# Altium schematic symbol library PCB_STM32RCT61.SCHLIB: 39 symbols
Pins are listed as number, name and electrical type; pins without a type are passive.

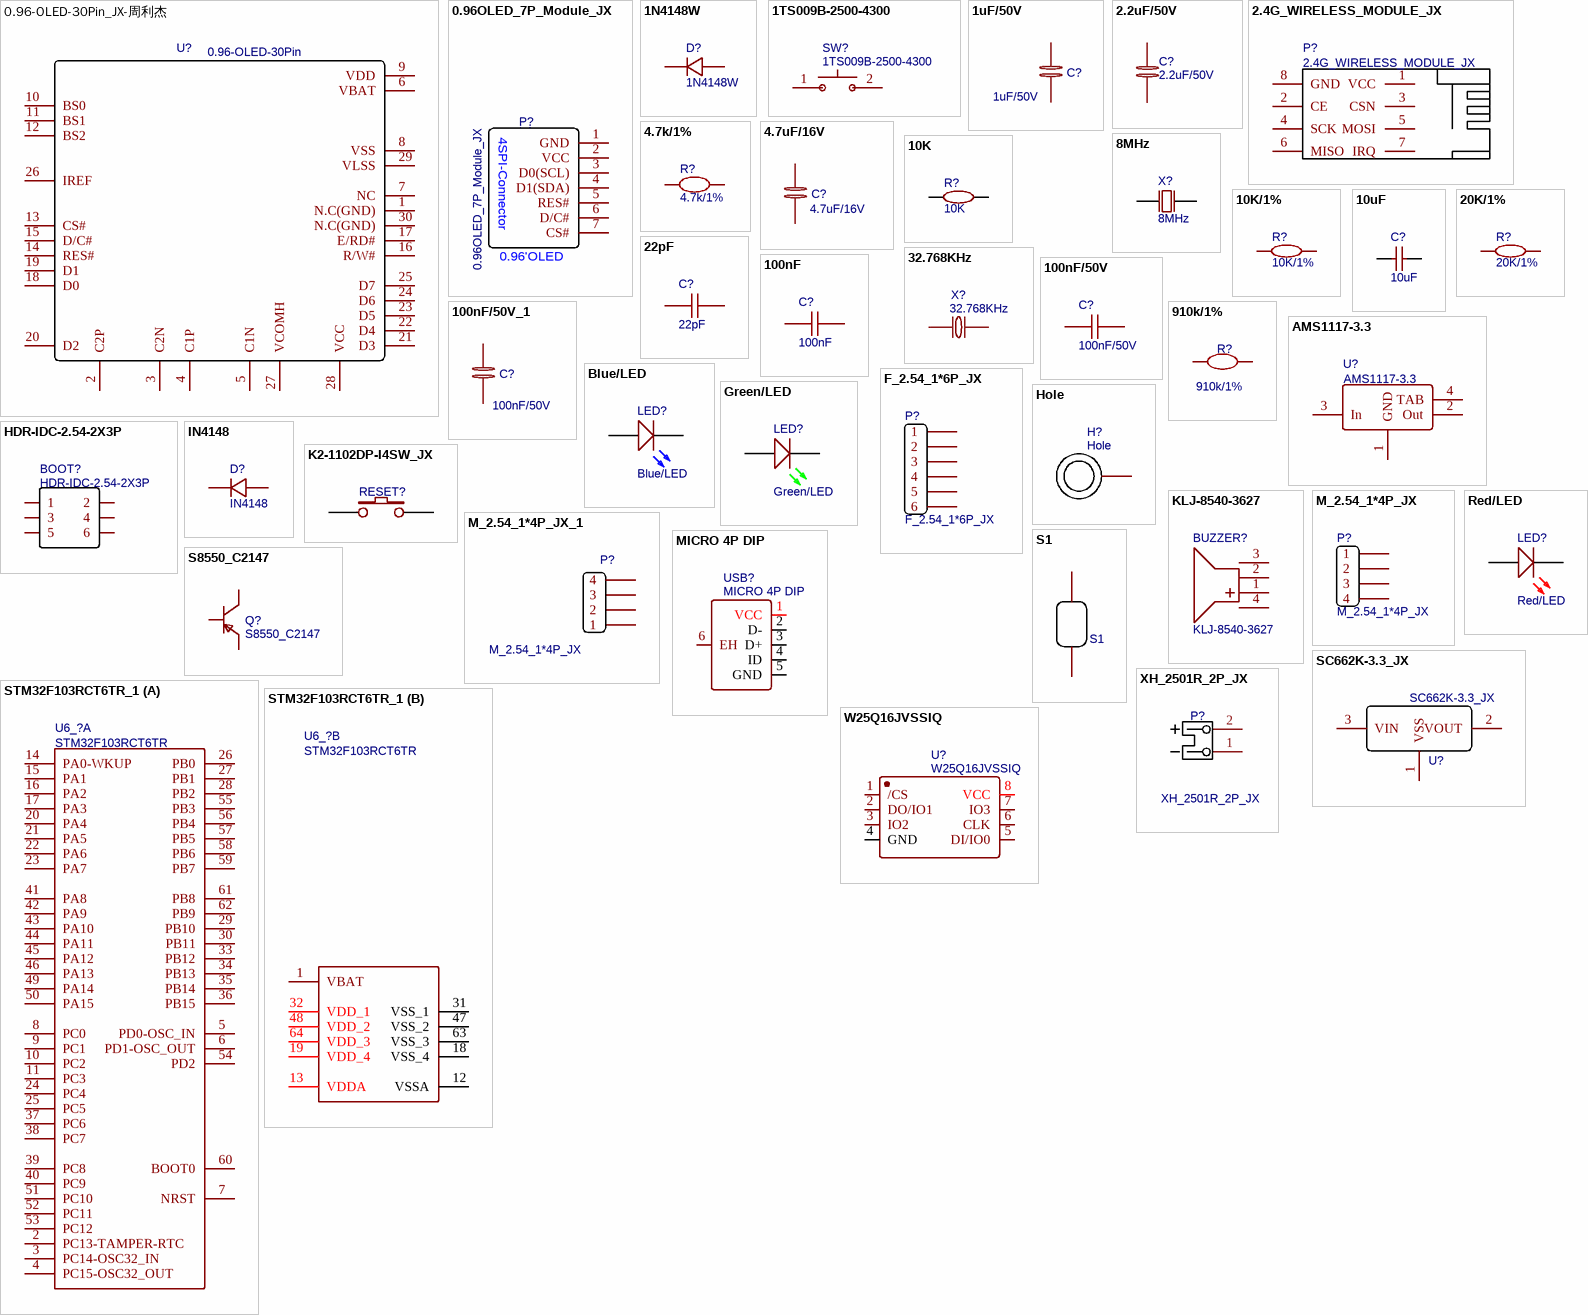
[diagram p0: symbols 0.96-OLED-30Pin_JX-周利杰 to XH_2501R_2P_JX]

## 0.96-OLED-30Pin_JX-周利杰
designator U?, comment 0.96-OLED-30Pin
Contributor: 2019电子技术新讲座; spicePre: U
footprint new_OLED30P
pins: 1 N.C(GND), 2 C2P, 3 C2N, 4 C1P, 5 C1N, 6 VBAT, 7 NC, 8 VSS, 9 VDD, 10 BS0, 11 BS1, 12 BS2, 13 CS#, 14 RES#, 15 D/C#, 16 R/W#, 17 E/RD#, 18 D0, 19 D1, 20 D2, 21 D3, 22 D4, 23 D5, 24 D6, 25 D7, 26 IREF, 27 VCOMH, 28 VCC, 29 VLSS, 30 N.C(GND)

## 0.96OLED_7P_Module_JX
designator P?
spicePre: P; BOM_Supplier: 技小新
footprint 0.96OLED_7P_MODULE_JX
pins: 1 GND, 2 VCC, 3 D0(SCL), 4 D1(SDA), 5 RES#, 6 D/C#, 7 CS#
text: 4SPI-Connector; 0.96'OLED

## 1N4148W
designator D?
BOM_Manufacturer: SEMTECH; SMT Type: Basic; BOM_Supplier: LCSC; BOM_Manufacturer Part: 1N4148W; image: //image.lceda.cn/szlcsc/C81598.jpg; BOM_Supplier Part: C81598; BOM_LCSC Assembly: Yes; spicePre: D
footprint SOD-523_JX
pins: 1 K, 2 A

## 1TS009B-2500-4300
designator SW?
BOM_Manufacturer: HYP; Contributor: LCSC; BOM_Supplier: LCSC; BOM_Supplier Part: C255815; BOM_Manufacturer Part: 1TS009B-2500-4300; spicePre: S; spiceSymbolName: 1TS009B-2500-4300
footprint SW-SMD_L6.0-W6.0-P6.00-LS6.6
pins: 1, 2

## 1uF/50V
designator C?
nameAlias: Value(F); spicePre: C; spiceSymbolName: Cap_RAD-0.1_EU
footprint 0603_C_JX
pins: 1, 2

## 2.2uF/50V
designator C?
nameAlias: Value(F); spicePre: C; spiceSymbolName: Cap_RAD-0.1_EU
footprint 0603_C_JX
pins: 1, 2

## 2.4G_WIRELESS_MODULE_JX
designator P?
sourceId: LXR9rJ0Uc; timeStamp: 1459465771; BOM_Supplier: 技小新; spicePre: P
footprint WIRELM-SMD_DL-24N-2.4G
pins: 1 VCC, 2 CE, 3 CSN, 4 SCK, 5 MOSI, 6 MISO, 7 IRQ, 8 GND

## 4.7k/1%
designator R?
nameAlias: Value(Ω); spicePre: R; spiceSymbolName: Res_AXIAL-0.3(1/8W)_EU
footprint 0603_R_JX
pins: 1, 2

## 4.7uF/16V
designator C?
nameAlias: Value(F); spicePre: C; spiceSymbolName: Cap_RAD-0.1_EU
footprint 0603_C_JX
pins: 1, 2

## 8MHz
designator X?
BOM_Manufacturer: TXC Corp; BOM_Manufacturer Part: AA08000004; nameAlias: Value; Contributor: LCSC; BOM_Supplier: LCSC; BOM_Supplier Part: C337214; spicePre: X; spiceSymbolName: AA08000004
footprint SMD-5032_2P
pins: 1 OSC1, 2 OSC2

## 10K
designator R?
BOM_Manufacturer: ROHM; BOM_Manufacturer Part: MCR03EZPFX1002; nameAlias: Resistance (Ohms); BOM_Supplier: LCSC; BOM_Supplier Part: C114853; spicePre: R; spiceSymbolName: MCR03EZPFX1002
footprint 0603
pins: 1, 2

## 10K/1%
designator R?
nameAlias: Value(Ω); spicePre: R; spiceSymbolName: Resistor; BOM_Supplier: LCSC
footprint 0603_R_JX
pins: 1, 2

## 10uF
designator C?
BOM_Manufacturer: FH; BOM_Manufacturer Part: 0805F106M250NT; nameAlias: Capacitance; BOM_Supplier: LCSC; BOM_Supplier Part: C48181; spicePre: C; spiceSymbolName: 0805F106M250NT
footprint 0805
pins: 1, 2

## 20K/1%
designator R?
nameAlias: Value(Ω); spicePre: R; spiceSymbolName: Resistor; BOM_Supplier: LCSC
footprint 0603_R_JX
pins: 1, 2

## 22pF
designator C?
BOM_Manufacturer: WTC; BOM_Manufacturer Part: 0603N220G500; nameAlias: Capacitance; Contributor: LCSC; BOM_Supplier: LCSC; BOM_Supplier Part: C152916; spicePre: C; spiceSymbolName: 0603N220G500
footprint 0603
pins: 1, 2

## 32.768KHz
designator X?
BOM_Manufacturer: EPSON; BOM_Manufacturer Part: FC-135R32.768kHz7.0pF20PPM; nameAlias: Frequency; BOM_Supplier: LCSC; BOM_Supplier Part: C94674; spicePre: X; spiceSymbolName: FC-135R32.768kHz7.0pF20PPM
footprint 32.768khz
pins: 1, 2

## 100nF
designator C?
BOM_Manufacturer: WTC; BOM_Manufacturer Part: 0603B104K500; nameAlias: Capacitance; BOM_Supplier: LCSC; BOM_Supplier Part: C90807; spicePre: C; spiceSymbolName: 0603B104K500
footprint 0603
pins: 1, 2

## 100nF/50V
designator C?
nameAlias: Value(F); spicePre: C; spiceSymbolName: Capacitor; BOM_Supplier: LCSC
footprint 0603_C_JX
pins: 1, 2

## 100nF/50V_1
designator C?, comment 100nF/50V
nameAlias: Value(F); spicePre: C; spiceSymbolName: Cap_RAD-0.1_EU
footprint 0603_C_JX
pins: 1, 2

## 910k/1%
designator R?
nameAlias: Value(Ω); spicePre: R; spiceSymbolName: Res_AXIAL-0.3(1/8W)_EU
footprint 0603_R_JX
pins: 1, 2

## AMS1117-3.3
designator U?
BOM_Manufacturer: AMS; sourceId: dwIGgezVh; timeStamp: 1476261164; BOM_Supplier: LCSC; BOM_Manufacturer Part: AMS1117-3.3; BOM_LCSC Assembly: Yes; image: //image.lceda.cn/szlcsc/C6186.jpg; BOM_Supplier Part: C6186; spicePre: U
footprint SOT-223
pins: 1 GND, 2 Out, 3 In, 4 TAB

## Blue/LED
designator LED?
BOM_Supplier: LCSC; spicePre: L
footprint 0603_D_JX
pins: 1 A, 2 C

## F_2.54_1*6P_JX
designator P?
BOM_Supplier: LCSC; spicePre: P
footprint M_2.54_1*6P_JX
pins: 1, 2, 3, 4, 5, 6

## Green/LED
designator LED?
BOM_Supplier: LCSC; spicePre: L
footprint 0603_D_JX
pins: 1 A, 2 C

## HDR-IDC-2.54-2X3P
designator BOOT?
BOM_Manufacturer: BOOMELE; BOM_Manufacturer Part: 2X3 2.54mm IDC Box; BOM_Supplier: LCSC; image: //image.lceda.cn/szlcsc/C11214.jpg; BOM_Supplier Part: C11214; spicePre: P
footprint A2541WV-2X3P
pins: 1, 2, 3, 4, 5, 6

## Hole
designator H?
Contributor: lc_ms; spicePre: H; spiceSymbolName: Hole
footprint PCBComponent_1 - duplicate
pins: 1

## IN4148
designator D?
BOM_Manufacturer: Semtech; Contributor: LCSC; BOM_Supplier: LCSC; BOM_Supplier Part: C14538; BOM_Manufacturer Part: IN4148; spicePre: D; spiceSymbolName: IN4148
footprint DO-35_BD2.0-L4.2-P8.20-D0.5-RD
pins: 1, 2

## K2-1102DP-I4SW_JX
designator RESET?  (value not drawn)
BOM_Supplier: LCSC; spicePre: K
footprint SW_DIP_6*6*8_JX
pins: 1, 2

## KLJ-8540-3627
designator BUZZER?
BOM_Manufacturer: KELIKING; Contributor: LCSC; BOM_Supplier: LCSC; BOM_Supplier Part: C189207; BOM_Manufacturer Part: KLJ-8540-3627; spicePre: B; spiceSymbolName: KLJ-8540-3627
footprint BUZ-SMD_4P-L8.5-W8.5-TL
pins: 1 +, 2 -, 3, 4

## M_2.54_1*4P_JX
designator P?
BOM_Supplier: LCSC; spicePre: P
footprint M_2.54_1*4P_JX
pins: 1, 2, 3, 4

## M_2.54_1*4P_JX_1
designator P?, comment M_2.54_1*4P_JX
Contributor: jixin-team; BOM_Supplier Part: C115245; BOM_Supplier: LCSC; spicePre: P
footprint M_2.54_1*4P_JX
pins: 1, 2, 3, 4

## MICRO 4P DIP
designator USB?
BOM_Manufacturer: SHOU HAN; Contributor: LCSC; BOM_Supplier: LCSC; BOM_Supplier Part: C456008; BOM_Manufacturer Part: MICRO 4P DIP; spicePre: U; spiceSymbolName: MICRO 4P DIP
footprint MINI-USB-SMD_MICRO-4P-DIP
pins: 1 VCC, 2 D-, 3 D+, 4 ID, 5 GND, 6 EH

## Red/LED
designator LED?
BOM_Supplier: LCSC; spicePre: L
footprint 0603_D_JX
pins: 1 A, 2 C

## S1
designator U?
Contributor: ywl21; spicePre: U
footprint S1
pins: 1, 2

## S8550_C2147
designator Q?
BOM_Manufacturer: CJ; BOM_Manufacturer Part: S8550; SMT Type: Extend; BOM_Supplier: LCSC; image: //image.lceda.cn/szlcsc/C2147.jpg; BOM_Supplier Part: C2147; BOM_LCSC Assembly: Yes; spicePre: Q; spiceSymbolName: S8550_C2147
footprint SOT-23-3_L2.9-W1.3-P1.90-LS2.4-BR
pins: 1 B, 2 E, 3 C

## SC662K-3.3_JX
designator U?
Contributor: jixin002; BOM_Manufacturer Part: SC662K-3.3; spicePre: U
footprint sc662k
pins: 1 VSS, 2 VOUT, 3 VIN

## STM32F103RCT6TR_1
designator U6_?, comment STM32F103RCT6TR
BOM_Manufacturer: STMicroelectronics; BOM_Supplier: LCSC; BOM_Manufacturer Part: STM32F103RCT6TR; image: //image.lceda.cn/szlcsc/C39704.jpg; BOM_Supplier Part: C39704; BOM_LCSC Assembly: Yes; spicePre: U
footprint LQFP-64_10X10X05P
part A pins: 2 PC13-TAMPER-RTC, 3 PC14-OSC32_IN, 4 PC15-OSC32_OUT, 5 PD0-OSC_IN, 6 PD1-OSC_OUT, 7 NRST, 8 PC0, 9 PC1, 10 PC2, 11 PC3, 14 PA0-WKUP, 15 PA1, 16 PA2, 17 PA3, 20 PA4, 21 PA5, 22 PA6, 23 PA7, 24 PC4, 25 PC5, 26 PB0, 27 PB1, 28 PB2, 29 PB10, 30 PB11, 33 PB12, 34 PB13, 35 PB14, 36 PB15, 37 PC6, 38 PC7, 39 PC8, 40 PC9, 41 PA8, 42 PA9, 43 PA10, 44 PA11, 45 PA12, 46 PA13, 49 PA14, 50 PA15, 51 PC10, 52 PC11, 53 PC12, 54 PD2, 55 PB3, 56 PB4, 57 PB5, 58 PB6, 59 PB7, 60 BOOT0, 61 PB8, 62 PB9
part B pins: 1 VBAT, 12 VSSA, 13 VDDA, 18 VSS_4, 19 VDD_4, 31 VSS_1, 32 VDD_1, 47 VSS_2, 48 VDD_2, 63 VSS_3, 64 VDD_3

## W25Q16JVSSIQ
designator U?
BOM_Manufacturer: WINBOND; SMT Type: Extend; BOM_Supplier: LCSC; BOM_Manufacturer Part: W25Q16JVSSIQ; image: //image.lceda.cn/szlcsc/C82317.jpg; BOM_Supplier Part: C82317; BOM_LCSC Assembly: Yes; spicePre: U; spiceSymbolName: W25Q16JVSSIQ
footprint w25q16
pins: 1 /CS, 2 DO/IO1, 3 IO2, 4 GND, 5 DI/IO0, 6 CLK, 7 IO3, 8 VCC

## XH_2501R_2P_JX
designator P?
catid: 20; BOM_Supplier: LCSC; spicePre: P
footprint XH_2501R_2P_JX
pins: 1, 2